# Altium schematic symbol library SCH - MCU - STM32 - ST MICROELECTRONICS STM32F205R(E-G)YX WLCSP66.SchLib: 1 symbol
Pins are listed as number, name and electrical type; pins without a type are passive.

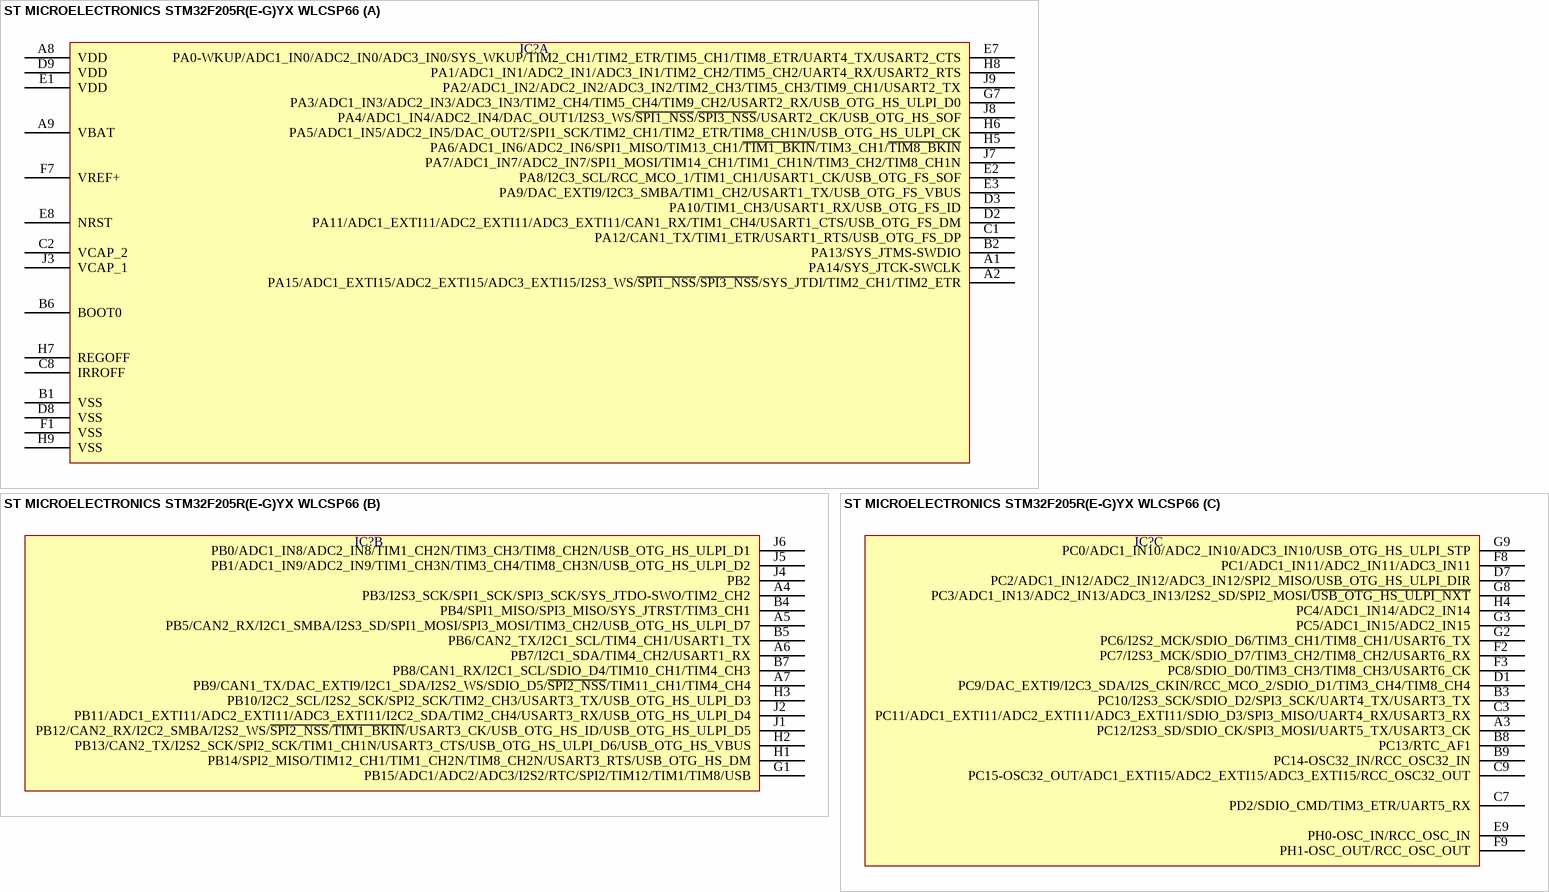
[diagram p0: symbol ST MICROELECTRONICS STM32F205R(E-G)YX WLCSP66]

## ST MICROELECTRONICS STM32F205R(E-G)YX WLCSP66
designator IC?  (value not drawn)
part A pins: A1 PA14/SYS_JTCK-SWCLK, A2 PA15/ADC1_EXTI15/ADC2_EXTI15/ADC3_EXTI15/I2S3_WS/~{SPI1_NSS}/~{SPI3_NSS}/SYS_JTDI/TIM2_CH1/TIM2_ETR, A8 VDD, A9 VBAT, B1 VSS, B2 PA13/SYS_JTMS-SWDIO, B6 BOOT0, C1 PA12/CAN1_TX/TIM1_ETR/USART1_RTS/USB_OTG_FS_DP, C2 VCAP_2, C8 IRROFF, D2 PA11/ADC1_EXTI11/ADC2_EXTI11/ADC3_EXTI11/CAN1_RX/TIM1_CH4/USART1_CTS/USB_OTG_FS_DM, D3 PA10/TIM1_CH3/USART1_RX/USB_OTG_FS_ID, D8 VSS, D9 VDD, E1 VDD, E2 PA8/I2C3_SCL/RCC_MCO_1/TIM1_CH1/USART1_CK/USB_OTG_FS_SOF, E3 PA9/DAC_EXTI9/I2C3_SMBA/TIM1_CH2/USART1_TX/USB_OTG_FS_VBUS, E7 PA0-WKUP/ADC1_IN0/ADC2_IN0/ADC3_IN0/SYS_WKUP/TIM2_CH1/TIM2_ETR/TIM5_CH1/TIM8_ETR/UART4_TX/USART2_CTS, E8 NRST, F1 VSS, F7 VREF+, G7 PA3/ADC1_IN3/ADC2_IN3/ADC3_IN3/TIM2_CH4/TIM5_CH4/TIM9_CH2/USART2_RX/USB_OTG_HS_ULPI_D0, H5 PA6/ADC1_IN6/ADC2_IN6/SPI1_MISO/TIM13_CH1/~{TIM1_BKIN}/TIM3_CH1/~{TIM8_BKIN}, H6 PA5/ADC1_IN5/ADC2_IN5/DAC_OUT2/SPI1_SCK/TIM2_CH1/TIM2_ETR/TIM8_CH1N/USB_OTG_HS_ULPI_CK, H7 REGOFF, H8 PA1/ADC1_IN1/ADC2_IN1/ADC3_IN1/TIM2_CH2/TIM5_CH2/UART4_RX/USART2_RTS, H9 VSS, J3 VCAP_1, J7 PA7/ADC1_IN7/ADC2_IN7/SPI1_MOSI/TIM14_CH1/TIM1_CH1N/TIM3_CH2/TIM8_CH1N, J8 PA4/ADC1_IN4/ADC2_IN4/DAC_OUT1/I2S3_WS/~{SPI1_NSS}/~{SPI3_NSS}/USART2_CK/USB_OTG_HS_SOF, J9 PA2/ADC1_IN2/ADC2_IN2/ADC3_IN2/TIM2_CH3/TIM5_CH3/TIM9_CH1/USART2_TX
part B pins: A4 PB3/I2S3_SCK/SPI1_SCK/SPI3_SCK/SYS_JTDO-SWO/TIM2_CH2, A5 PB5/CAN2_RX/I2C1_SMBA/I2S3_SD/SPI1_MOSI/SPI3_MOSI/TIM3_CH2/USB_OTG_HS_ULPI_D7, A6 PB7/I2C1_SDA/TIM4_CH2/USART1_RX, A7 PB9/CAN1_TX/DAC_EXTI9/I2C1_SDA/I2S2_WS/SDIO_D5/~{SPI2_NSS}/TIM11_CH1/TIM4_CH4, B4 PB4/SPI1_MISO/SPI3_MISO/SYS_JTRST/TIM3_CH1, B5 PB6/CAN2_TX/I2C1_SCL/TIM4_CH1/USART1_TX, B7 PB8/CAN1_RX/I2C1_SCL/SDIO_D4/TIM10_CH1/TIM4_CH3, G1 PB15/ADC1/ADC2/ADC3/I2S2/RTC/SPI2/TIM12/TIM1/TIM8/USB, H1 PB14/SPI2_MISO/TIM12_CH1/TIM1_CH2N/TIM8_CH2N/USART3_RTS/USB_OTG_HS_DM, H2 PB13/CAN2_TX/I2S2_SCK/SPI2_SCK/TIM1_CH1N/USART3_CTS/USB_OTG_HS_ULPI_D6/USB_OTG_HS_VBUS, H3 PB10/I2C2_SCL/I2S2_SCK/SPI2_SCK/TIM2_CH3/USART3_TX/USB_OTG_HS_ULPI_D3, J1 PB12/CAN2_RX/I2C2_SMBA/I2S2_WS/~{SPI2_NSS}/~{TIM1_BKIN}/USART3_CK/USB_OTG_HS_ID/USB_OTG_HS_ULPI_D5, J2 PB11/ADC1_EXTI11/ADC2_EXTI11/ADC3_EXTI11/I2C2_SDA/TIM2_CH4/USART3_RX/USB_OTG_HS_ULPI_D4, J4 PB2, J5 PB1/ADC1_IN9/ADC2_IN9/TIM1_CH3N/TIM3_CH4/TIM8_CH3N/USB_OTG_HS_ULPI_D2, J6 PB0/ADC1_IN8/ADC2_IN8/TIM1_CH2N/TIM3_CH3/TIM8_CH2N/USB_OTG_HS_ULPI_D1
part C pins: A3 PC12/I2S3_SD/SDIO_CK/SPI3_MOSI/UART5_TX/USART3_CK, B3 PC10/I2S3_SCK/SDIO_D2/SPI3_SCK/UART4_TX/USART3_TX, B8 PC13/RTC_AF1, B9 PC14-OSC32_IN/RCC_OSC32_IN, C3 PC11/ADC1_EXTI11/ADC2_EXTI11/ADC3_EXTI11/SDIO_D3/SPI3_MISO/UART4_RX/USART3_RX, C7 PD2/SDIO_CMD/TIM3_ETR/UART5_RX, C9 PC15-OSC32_OUT/ADC1_EXTI15/ADC2_EXTI15/ADC3_EXTI15/RCC_OSC32_OUT, D1 PC9/DAC_EXTI9/I2C3_SDA/I2S_CKIN/RCC_MCO_2/SDIO_D1/TIM3_CH4/TIM8_CH4, D7 PC2/ADC1_IN12/ADC2_IN12/ADC3_IN12/SPI2_MISO/USB_OTG_HS_ULPI_DIR, E9 PH0-OSC_IN/RCC_OSC_IN, F2 PC7/I2S3_MCK/SDIO_D7/TIM3_CH2/TIM8_CH2/USART6_RX, F3 PC8/SDIO_D0/TIM3_CH3/TIM8_CH3/USART6_CK, F8 PC1/ADC1_IN11/ADC2_IN11/ADC3_IN11, F9 PH1-OSC_OUT/RCC_OSC_OUT, G2 PC6/I2S2_MCK/SDIO_D6/TIM3_CH1/TIM8_CH1/USART6_TX, G3 PC5/ADC1_IN15/ADC2_IN15, G8 PC3/ADC1_IN13/ADC2_IN13/ADC3_IN13/I2S2_SD/SPI2_MOSI/~{USB_OTG_HS_ULPI_NXT}, G9 PC0/ADC1_IN10/ADC2_IN10/ADC3_IN10/USB_OTG_HS_ULPI_STP, H4 PC4/ADC1_IN14/ADC2_IN14